# EAGLE library part LT3471 (library linear-technology)
Boost/Inverter Dual 1.3A, 1.2MHz
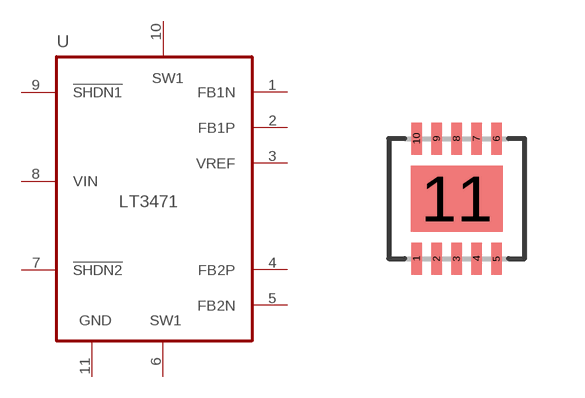
[diagram p25: symbol with the pads of DFN10; footprint DFN10]

Designator prefix U

## LT3471 (P1I: o)  [DFN10]
1  FB1N
2  FB1P
3  VREF
4  FB2P
5  FB2N
6  SW2
7  !SHDN2!
8  VIN
9  !SHDN1!
10  SW1
11  GND

## Footprint DFN10 (pad centres in mm)
DFN-10 (3mmx3mm)
smd 0.265 x 0.8: 1 -1,-1.5; 2 -0.5,-1.5; 3 0,-1.5; 4 0.5,-1.5; 5 1,-1.5; 6 1,1.5; 7 0.5,1.5; 8 0,1.5; 9 -0.5,1.5; 10 -1,1.5
smd 2.3 x 1.65: 11 0,0